# EAGLE library part U262-161N-4BVC11 (library con-usb)
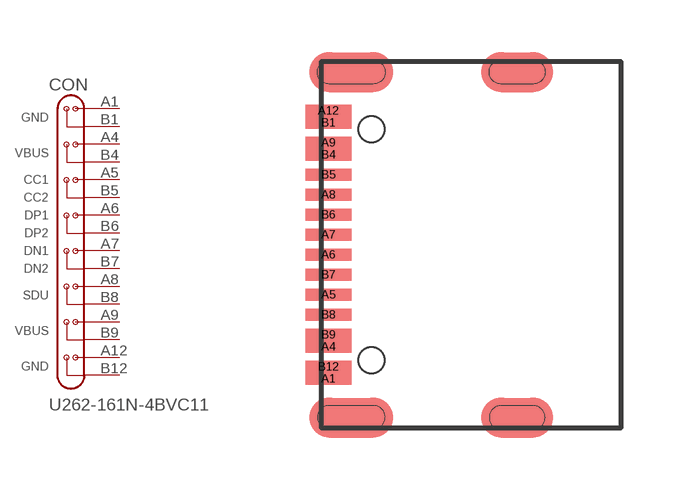
[diagram p1: symbol with the pads of U262-161N-4BVC11; footprint U262-161N-4BVC11]

Designator prefix CON

## U262-161N-4BVC11  [U262-161N-4BVC11]
A1  A1
A4  A4
A5  A5
A6  A6
A7  A7
A8  A8
A9  A9
A12  A12
B1  B1
B4  B4
B5  B5
B6  B6
B7  B7
B8  B8
B9  B9
B12  B12

## Footprint U262-161N-4BVC11 (pad centres in mm)
smd 1.15 x 0.3: A1 -4.725,-3.35; A4 -4.725,-2.55; A5 -4.725,-1.25; A6 -4.725,-0.25; A7 -4.725,0.25; A8 -4.725,1.25; A9 -4.725,2.55; A12 -4.725,3.35; B1 -4.725,3.05; B4 -4.725,2.25; B5 -4.725,1.75; B6 -4.725,0.75; B7 -4.725,-0.75; B8 -4.725,-1.75; B9 -4.725,-2.25; B12 -4.725,-3.05
hole 0.65 at -3.65,-2.89
hole 0.65 at -3.65,2.89